# EAGLE library part USB-MINIUSB-5P (library Connector)
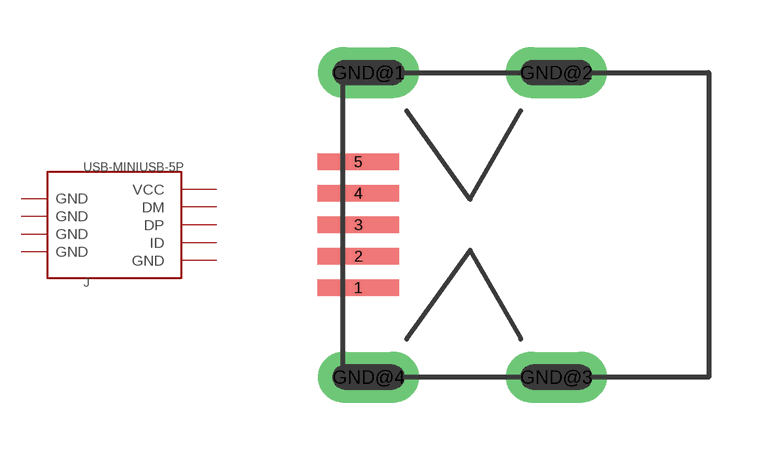
[diagram p34: symbol with the pads of MINI-5P; footprint MINI-5P]

Designator prefix J

## USB-MINIUSB-5P-STRONG  [MINI-5P]
1  VCC
2  DM
3  DP
4  ID
5  GND
GND@1  GND
GND@2  GND
GND@3  GND
GND@4  GND

## Footprint MINI-5P (pad centres in mm)
smd 2.032 x 0.406: 1 0.381,-1.575; 2 0.381,-0.787; 3 0.381,0; 4 0.381,0.787; 5 0.381,1.575
drill 0.635 pad 1.27 long: GND@1 0.635,3.81; GND@2 5.334,3.81; GND@3 5.334,-3.81; GND@4 0.635,-3.81